# Altium footprint library DO-214AC(SMA)-Schottky.PcbLib: 1 footprints
Each footprint in its own frame and in the unit in brackets; x right, y up, seen from the top. Pads: shape width x height; smd on the part's side, far side on the other; paste and mask are expansions set on the pad; w line width, h text height; cw(c..) or ccw(c..) is an arc to the next point about the centre after c.
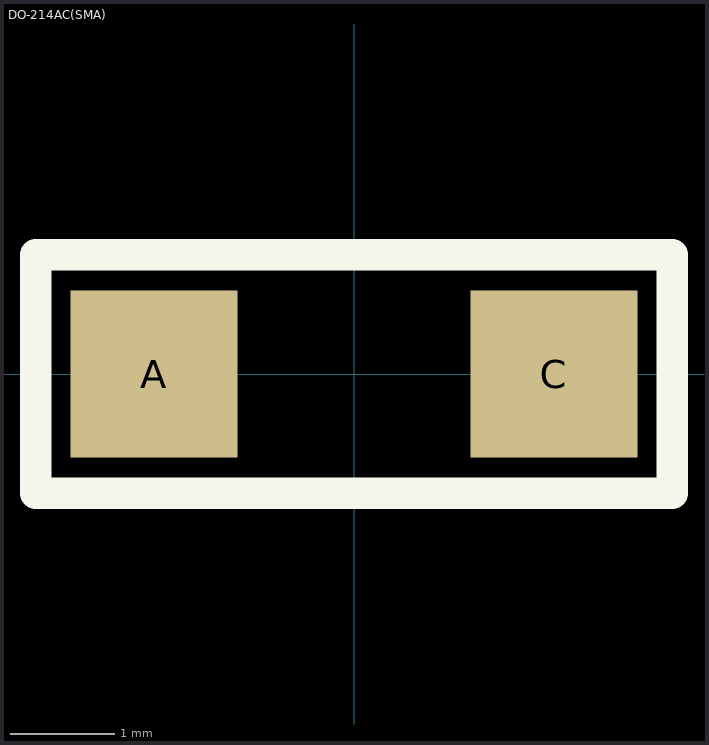
[diagram p0: the footprint, top view; thin cyan lines are the x and y axes]

## DO-214AC(SMA) [mm] "1N5819 Diode, DO-214AC(SMA)"
pads (2):
  rect 1.6x1.6 smd: A(-1.915,0) C(1.915,0)
Top Overlay:
  lines w0.3: -3.048,-1.143 -3.048,-0.473 -3.048,1.143 3.048,1.143 3.048,-1.143 -3.048,-1.143